# Altium schematic symbol library Schlib.SchLib: 111 symbols (part 2 of 2)
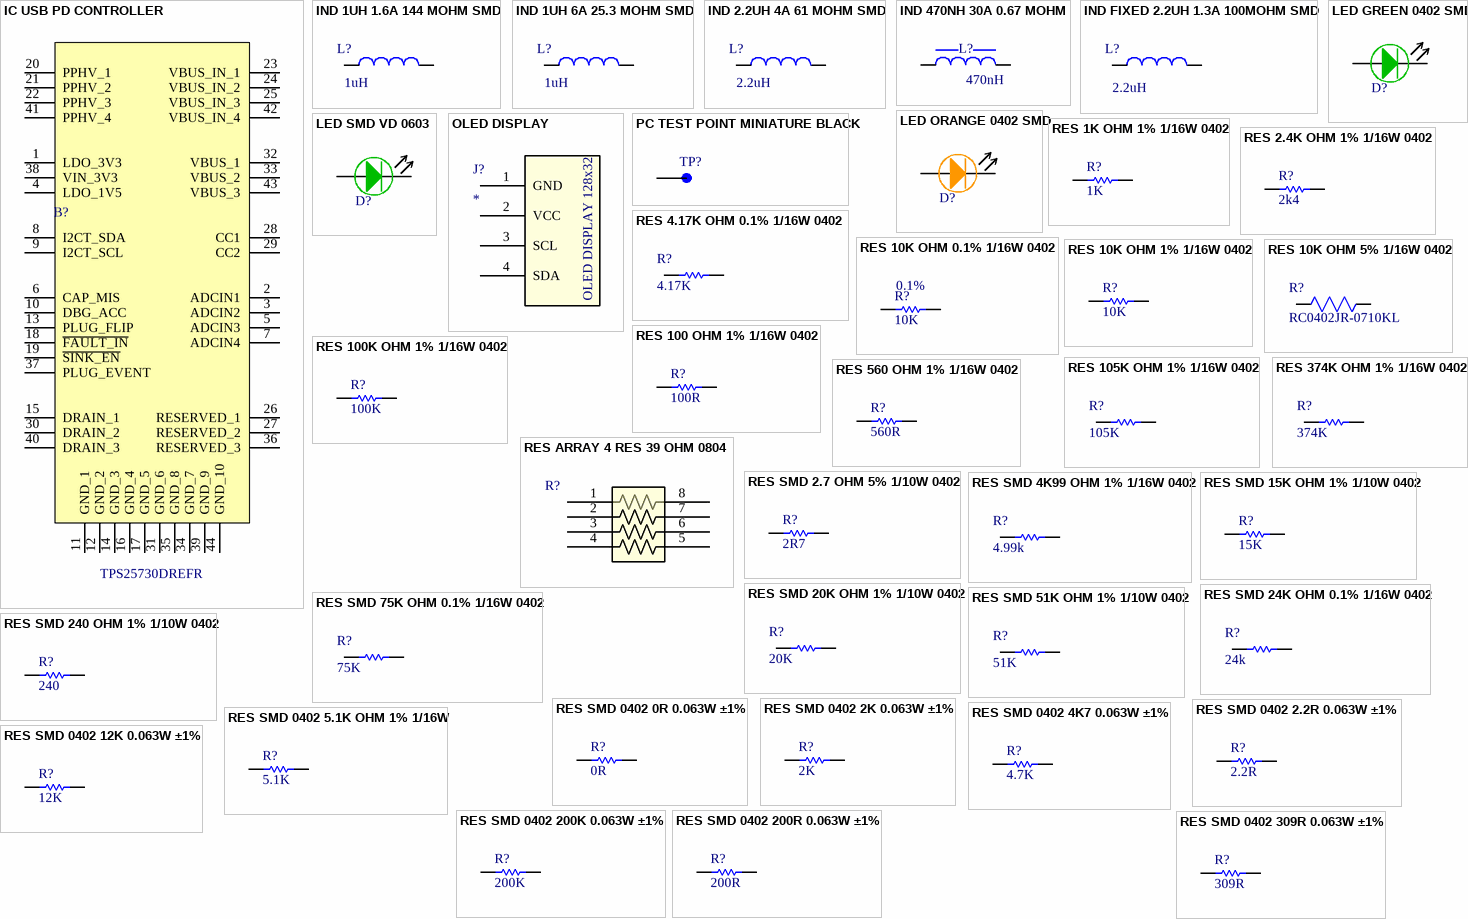
[diagram p8: symbols IC USB PD CONTROLLER to RES SMD 0402 309R 0.063W ±1%]

## RES 10K OHM 0.1% 1/16W 0402
designator R?, comment value 10K  TOLERANCE: 0.1%  (hidden comment: RNCF0402BTE10K0)
10 kOhms ±0.1% 0,063W, 1/16W Resistor de chip 0402 (métrico 1005) Resistente à umidade Filme grosso; PACK: 0402; POWER: 0.063W; PN: RNCF0402BTE10K0
footprint 0402-R-R
pins: 1, 2

## RES 10K OHM 1% 1/16W 0402
designator R?, comment value 10K  (hidden comment: RC0402FR-0710KL)
10 kOhms ±1% 0,063W, 1/16W Resistor de chip 0402 (métrico 1005) Resistente à umidade Filme grosso; PACK: 0402; POWER: 0.063W; TOLERANCE: 1%; PN: RC0402FR-0710KL
footprint 0402-R-R
pins: 1, 2

## RES 10K OHM 5% 1/16W 0402
designator R?, comment RC0402JR-0710KL
10 kOhms ±5% 0.063W, 1/16W Chip Resistor 0402 (1005 Metric) Moisture Resistant Thick Film / PN: RC0402JR-0710KL; Mfr_Name: Yageo; RESISTANCE: 10K; PN: RC0402JR-0710KL
footprint RC0402N_YAG
pins: 1, 2

## RES 100 OHM 1% 1/16W 0402
designator R?, comment value 100R  (hidden comment: RMCF0402FT100R)
100 Ohms ±1% 0.063W, 1/16W Chip Resistor 0402 (1005 Metric) Moisture Resistant Thick Film; PACK: 0402; TOLERANCE: 1%; POWER: 0.063W; PN: RMCF0402FT100R
footprint 0402-R-R
pins: 1, 2

## RES 100K OHM 1% 1/16W 0402
designator R?, comment value 100K  (hidden comment: RC0402FR-07100KL)
100 kOhms ±1% 0.063W, 1/16W Chip Resistor 0402 (1005 Metric) Moisture Resistant Thick Film; PACK: 0402; TOLERANCE: 1%; POWER: 0.063W; PN: RC0402FR-07100KL
footprint 0402-R-R
pins: 1, 2

## RES 105K OHM 1% 1/16W 0402
designator R?, comment Resistence: 105K  (hidden comment: RC0402FR-07105KL)
105 kOhms ±1% 0.063W, 1/16W Chip Resistor 0402 (1005 Metric) Moisture Resistant Thick Film; Mfr_Name: Panasonic; PN: RC0402FR-07105KL; Tolerance: 1%
footprint RC0402N_YAG
footprint 0402-R-R
pins: 1, 2

## RES 374K OHM 1% 1/16W 0402
designator R?, comment Resistence: 374K  (hidden comment: RC0402FR-07374KL)
374 kOhms ±1% 0.063W, 1/16W Chip Resistor 0402 (1005 Metric) Moisture Resistant Thick Film; Mfr_Name: Yageo; PN: RC0402FR-07374KL; Tolerance: 1%
footprint RC0402N_YAG
footprint 0402-R-R
pins: 1, 2

## RES 560 OHM 1% 1/16W 0402
designator R?, comment value 560R  (hidden comment: RC0402FR-07560RL)
560 Ohms ±1% 0.063W, 1/16W Chip Resistor 0402 (1005 Metric) Moisture Resistant Thick Film; PACK: 0402; PN: RC0402FR-0710KL; POWER: 0.063W; TOLERANCE: 1%
footprint 0402-R-R
pins: 1, 2

## RES ARRAY 4 RES 39 OHM 0804
designator R?, comment EXB-28V390JX  (value not drawn)
39 Ohm ±1% 62,5mW Potência por elemento Isolado 4 Cascata/rede de resistores ±200ppm/°C 0804, terminais com laterais longas e convexas; Mfr_Name: Panasonic; Value: 39; RefDes: RefDes; Type: Type; PN: EXB-28V390JX
footprint C_ARRAY_EXB28V_PAN-L
pins: 1, 2, 3, 4, 5, 6, 7, 8

## RES SMD 2.7 OHM 5% 1/10W 0402
designator R?, comment value 2R7  (hidden comment: ERJ-2GEJ2R7X)
2.7 Ohms ±5% 0.1W, 1/10W Chip Resistor 0402 (1005 Metric) Automotive AEC-Q200 Thick Film; PACK: 0402; POWER: 0.1W; TOLERANCE: 5%; PN: ERJ-2GEJ2R7X
footprint 0402-R-R
pins: 1, 2

## RES SMD 4K99 OHM 1% 1/16W 0402
designator R?, comment Resistence: 4.99k  (hidden comment: RMCF0402FT4K99)
4.99 kOhms ±0.1% 0.063W, 1/16W Chip Resistor 0402 (1005 Metric) Automotive AEC-Q200 Thin Film; Mfr_Name: Yageo; Tolerance: 1%; PN: RMCF0402FT4K99
footprint 0402-R-R
pins: 1, 2

## RES SMD 15K OHM 1% 1/10W 0402
designator R?, comment value 15K  (hidden comment: ERJ-2RKF1502X)
15 kOhms ±1% 0.1W, 1/10W Chip Resistor 0402 (1005 Metric) Automotive AEC-Q200 Thick Film; PACK: 0402; TOLERANCE: 1%; POWER: 0.1W; PN: ERJ-2RKF1502X
footprint 0402-R-R
pins: 1, 2

## RES SMD 20K OHM 1% 1/10W 0402
designator R?, comment Resistence: 20K  (hidden comment: ERJ-2RKF2002X)
20 kOhms ±1% 0.1W, 1/10W Chip Resistor 0402 (1005 Metric) Automotive AEC-Q200 Thick Film; Mfr_Name: Panasonic; PN: ERJ-2RKF2002X; Tolerance: 1%
footprint RC0402N_YAG
footprint 0402-R-R
pins: 1, 2

## RES SMD 24K OHM 0.1% 1/16W 0402
designator R?, comment Resistence: 24k  (hidden comment: RT0402BRD0724KL)
24 kOhms ±0.1% 0.063W, 1/16W Chip Resistor 0402 (1005 Metric) Thin Film; Mfr_Name: Yageo; PN: RT0402BRD0724KL; Tolerance: 0.1%
footprint 0402-R-R
pins: 1, 2

## RES SMD 51K OHM 1% 1/10W 0402
designator R?, comment Resistence: 51K  (hidden comment: ERJ-2RKF5102X)
51 kOhms ±1% 0.1W, 1/10W Chip Resistor 0402 (1005 Metric) Automotive AEC-Q200 Thick Film; Mfr_Name: Panasonic; PN: ERJ-2RKF5102X; Tolerance: 1%
footprint RC0402N_YAG
footprint 0402-R-R
pins: 1, 2

## RES SMD 75K OHM 0.1% 1/16W 0402
designator R?, comment Resistence: 75K  (hidden comment: ERA-2AEB753X)
75 kOhms ±0.1% 0.063W, 1/16W Chip Resistor 0402 (1005 Metric) Automotive AEC-Q200 Thin Film; Mfr_Name: Panasonic; PN: ERA-2AEB753X; Tolerance: 0.1%
footprint RC0402N_YAG
footprint 0402-R-R
pins: 1, 2

## RES SMD 240 OHM 1% 1/10W 0402
designator R?, comment value 240  (hidden comment: ERJ-2RKF2400X)
240 Ohms ±1% 0,1W, 1/10W Resistor de chip 0402 (métrico 1005) AEC-Q200 automotivo Filme grosso; PACK: 0402; POWER: 0.1W; TOLERANCE: 1%; PN: ERJ-2RKF2400X
footprint 0402-R-R
pins: 1, 2

## RES SMD 0402 0R 0.063W ±1%
designator R?, comment value 0R  (hidden comment: RMCF0402ZT0R00)
RES SMD GERAL FILM 0R 0.063W ±1% 0402 7" TAPE PN: RMCF0402ZT0R00 STACKPOLE; PACK: 0402; TOLERANCE: 1%; POWER: 0.063W; PN: RMCF0402ZT0R00
footprint 0402-R-R
pins: 1, 2

## RES SMD 0402 2.2R 0.063W ±1%
designator R?, comment value 2.2R  (hidden comment: RC0402FR-072R2L)
RES SMD GERAL FILM 2.2R 0.063W ±1% 0402 7" TAPE PN: RC0402FR-072R2L; PACK: 0402; POWER: 0.063W; TOLERANCE: 1%; PN: RC0402FR-072R2L
footprint 0402-R-R
pins: 1, 2

## RES SMD 0402 2K 0.063W ±1%
designator R?, comment value 2K  (hidden comment: RMCF0402FT2K00)
RES SMD GERAL FILM 2K 0.063W ±1% 0402 7" TAPE PN: RMCF0402FT2K00 STACKPOLE; PACK: 0402; POWER: 0.063W; TOLERANCE: 1%; PN: RMCF0402FT2K00
footprint 0402-R-R
pins: 1, 2

## RES SMD 0402 4K7 0.063W ±1%
designator R?  value 4.7K
RES SMD GERAL FILM 4K7 0.063W ±1% 0402 7" TAPE PN: RMCF0402FT4K70 STACKPOLE; PACK: 0402; TOLERANCE: 1%; POWER: 0.063W; PN: RMCF0402FT4K70
footprint 0402-R-R
pins: 1, 2

## RES SMD 0402 5.1K OHM 1% 1/16W
designator R?, comment value 5.1K  (hidden comment: RMCF0402FT5K10)
RES SMD 0402 5.1K OHM 1% 1/16W 0402 PN: RMCF0402FT5K10; PACK: 0402; TOLERANCE: 0.1%; POWER: 0.063W; PN: RMCF0402FT5K10
footprint 0402-R-R
pins: 1, 2

## RES SMD 0402 12K 0.063W ±1%
designator R?, comment value 12K  (hidden comment: RMCF0402FT12K0)
RES SMD GERAL FILM 12K 0.063W ±1% 0402 7" TAPE PN: RMCF0402FT12K0; PACK: 0402; POWER: 0.063W; TOLERANCE: 1%; PN: RMCF0402FT12K0
footprint 0402-R-R
pins: 1, 2

## RES SMD 0402 200K 0.063W ±1%
designator R?, comment value 200K  (hidden comment: RMCF0402FT200K)
RES SMD GERAL FILM 200K 0.063W ±1% 0402 7" TAPE PN: RMCF0402FT200K; PACK: 0402; POWER: 0.063W; TOLERANCE: 1%; PN: RMCF0402FT200K
footprint 0402-R-R
pins: 1, 2

## RES SMD 0402 200R 0.063W ±1%
designator R?, comment value 200R  (hidden comment: CRCW0402200RFKED)
RES SMD GERAL FILM 200R 0.063W ±1% 0402 7" TAPE PN: CRCW0402200RFKED; PACK: 0402; POWER: 0.063W; TOLERANCE: 1%; PN: CRCW0402200RFKED
footprint 0402-R-R
pins: 1, 2

## RES SMD 0402 309R 0.063W ±1%
designator R?, comment value 309R  (hidden comment: RC0402FR-072R2L)
RES SMD GERAL FILM 309R 0.063W ±1% 0402 7" TAPE PN: RC0402FR-07309RL; PACK: 0402; POWER: 0.063W; TOLERANCE: 1%; PN: RC0402FR-07309RL
footprint 0402-R-R
pins: 1, 2

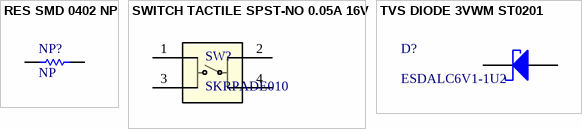
[diagram p7: symbols RES SMD 0402 NP to TVS DIODE 3VWM ST0201]

## RES SMD 0402 NP
designator NP?, comment NP
RES SMD 0402 NP; PACK: 0402; VALUE: NP
footprint 0402-R-NP
pins: 1, 2

## SWITCH TACTILE SPST-NO 0.05A 16V
designator SW?, comment SKRPADE010
Interruptor tátil SPST-NA Top atuado Montagem em superfície; Mfr_Name: Alps Electric; RefDes: RefDes; Type: Type; PN: SKRPADE010
footprint SKRPADE010_AAL
pins: 1, 2, 3, 4

## TVS DIODE 3VWM ST0201
designator D?, comment ESDALC6V1-1U2
Clamp Ipp Tvs Diode Surface Mount 0201; Mfr_Name: STMicroelectronics; RefDes: RefDes; Type: Type; PN: ESDALC6V1-1U2
footprint DIODE_ESDALC6V1-1U2_STM-M
pins: 1, 2